# Altium schematic symbol library NAATOS_INLAY_MK8.SCHLIB: 1 symbol
Pins are listed as number, name and electrical type; pins without a type are passive.

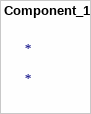
[diagram p0: symbol Component_1]

## Component_1
designator *